# Altium schematic symbol library GPS_MODEL.SCHLIB: 4 symbols
Pins are listed as number, name and electrical type; pins without a type are passive.

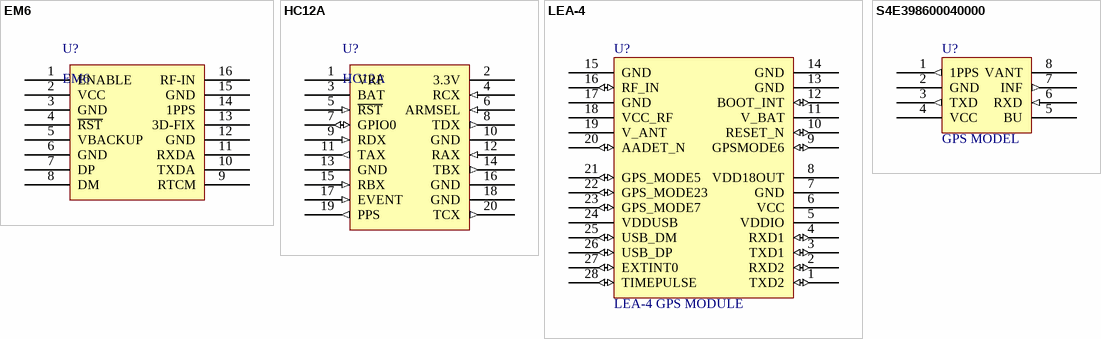
[diagram p0: symbols EM6 to S4E398600040000]

## EM6
designator U?
footprint EM6 (Footprint not found)
pins: 1 ENABLE, 2 VCC, 3 GND, 4 ~{RST}, 5 VBACKUP, 6 GND, 7 DP, 8 DM, 9 RTCM, 10 TXDA, 11 RXDA, 12 GND, 13 3D-FIX, 14 1PPS, 15 GND, 16 RF-IN

## HC12A
designator U?
footprint HC12A
pins: 1 VRF (power), 2 3.3V (power), 3 BAT (power), 4 RCX (in), 5 ~{RST} (in), 6 ARMSEL (in), 7 GPIO0 (io), 8 TDX (out), 9 RDX (in), 10 GND (power), 11 TAX (out), 12 RAX (in), 13 GND (power), 14 TBX (out), 15 RBX (in), 16 GND (power), 17 EVENT (in), 18 GND (power), 19 PPS (out), 20 TCX (out)

## LEA-4
designator U?, comment LEA-4 GPS MODULE
footprint LEA-4
pins: 1 TXD2 (io), 2 RXD2 (io), 3 TXD1 (io), 4 RXD1 (io), 5 VDDIO (power), 6 VCC (power), 7 GND (power), 8 VDD18OUT (power), 9 GPSMODE6 (io), 10 RESET_N (io), 11 V_BAT (power), 12 BOOT_INT (io), 13 GND (power), 14 GND (power), 15 GND (power), 16 RF_IN (io), 17 GND (power), 18 VCC_RF (power), 19 V_ANT (power), 20 AADET_N (io), 21 GPS_MODE5 (io), 22 GPS_MODE23 (io), 23 GPS_MODE7 (io), 24 VDDUSB (power), 25 USB_DM (io), 26 USB_DP (io), 27 EXTINT0 (io), 28 TIMEPULSE (io)

## S4E398600040000
designator U?, comment GPS MODEL
footprint S4E398600040000 (A3A-8DA-2SV)
pins: 1 1PPS (out), 2 GND (power), 3 TXD (out), 4 VCC (power), 5 BU (power), 6 RXD (in), 7 INF (out), 8 VANT (power)